# EAGLE library part A3953 (library mylbr)
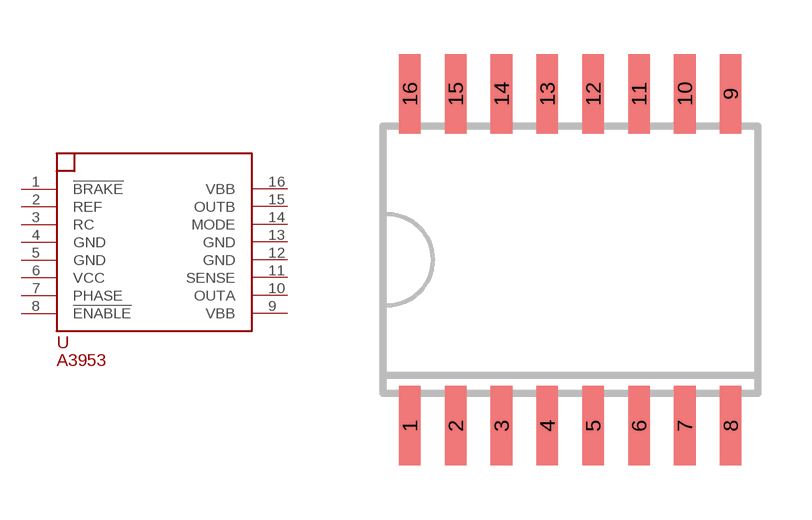
[diagram p1: symbol with the pads of SO16W; footprint SO16W]

Designator prefix U

## A3953  [SO16W]
1  !BRAKE
2  REF
3  RC
4  GND
5  GND
6  VCC
7  PHASE
8  !ENABLE
9  VBB
10  OUTA
11  SENSE
12  GND
13  GND
14  MODE
15  OUTB
16  VBB

## Footprint SO16W (pad centres in mm)
SMALL OUTLINE INTEGRATED CIRCUIT wide body 7.5 mm/JEDEC MS-013AA
smd 0.6 x 2.2: 1 -4.445,-4.6; 2 -3.175,-4.6; 3 -1.905,-4.6; 4 -0.635,-4.6; 5 0.635,-4.6; 6 1.905,-4.6; 7 3.175,-4.6; 8 4.445,-4.6; 9 4.445,4.6; 10 3.175,4.6; 11 1.905,4.6; 12 0.635,4.6; 13 -0.635,4.6; 14 -1.905,4.6; 15 -3.175,4.6; 16 -4.445,4.6